# Altium schematic symbol library NE555DR.SchLib: 1 symbol
Pins are listed as number, name and electrical type; pins without a type are passive.

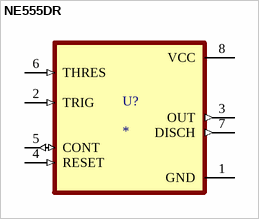
[diagram p0: symbol NE555DR]

## NE555DR
designator U?
MF: {'manufacturer': u'Texas Instruments'}; MP: NE555DR; Package: None; Price: None; Value: *; Availability: Unavailable
footprint SOIC127P599X175-8N
pins: 1 GND (power), 2 TRIG (in), 3 OUT (out), 4 RESET (in), 5 CONT (io), 6 THRES (in), 7 DISCH (out), 8 VCC (power)